# Altium footprint library SparkFun-Passives.PCBLIB: 102 footprints (part 6 of 7)
Each footprint in its own frame and in the unit in brackets; x right, y up, seen from the top. Pads: shape width x height; smd on the part's side, far side on the other; paste and mask are expansions set on the pad; w line width, h text height; cw(c..) or ccw(c..) is an arc to the next point about the centre after c.
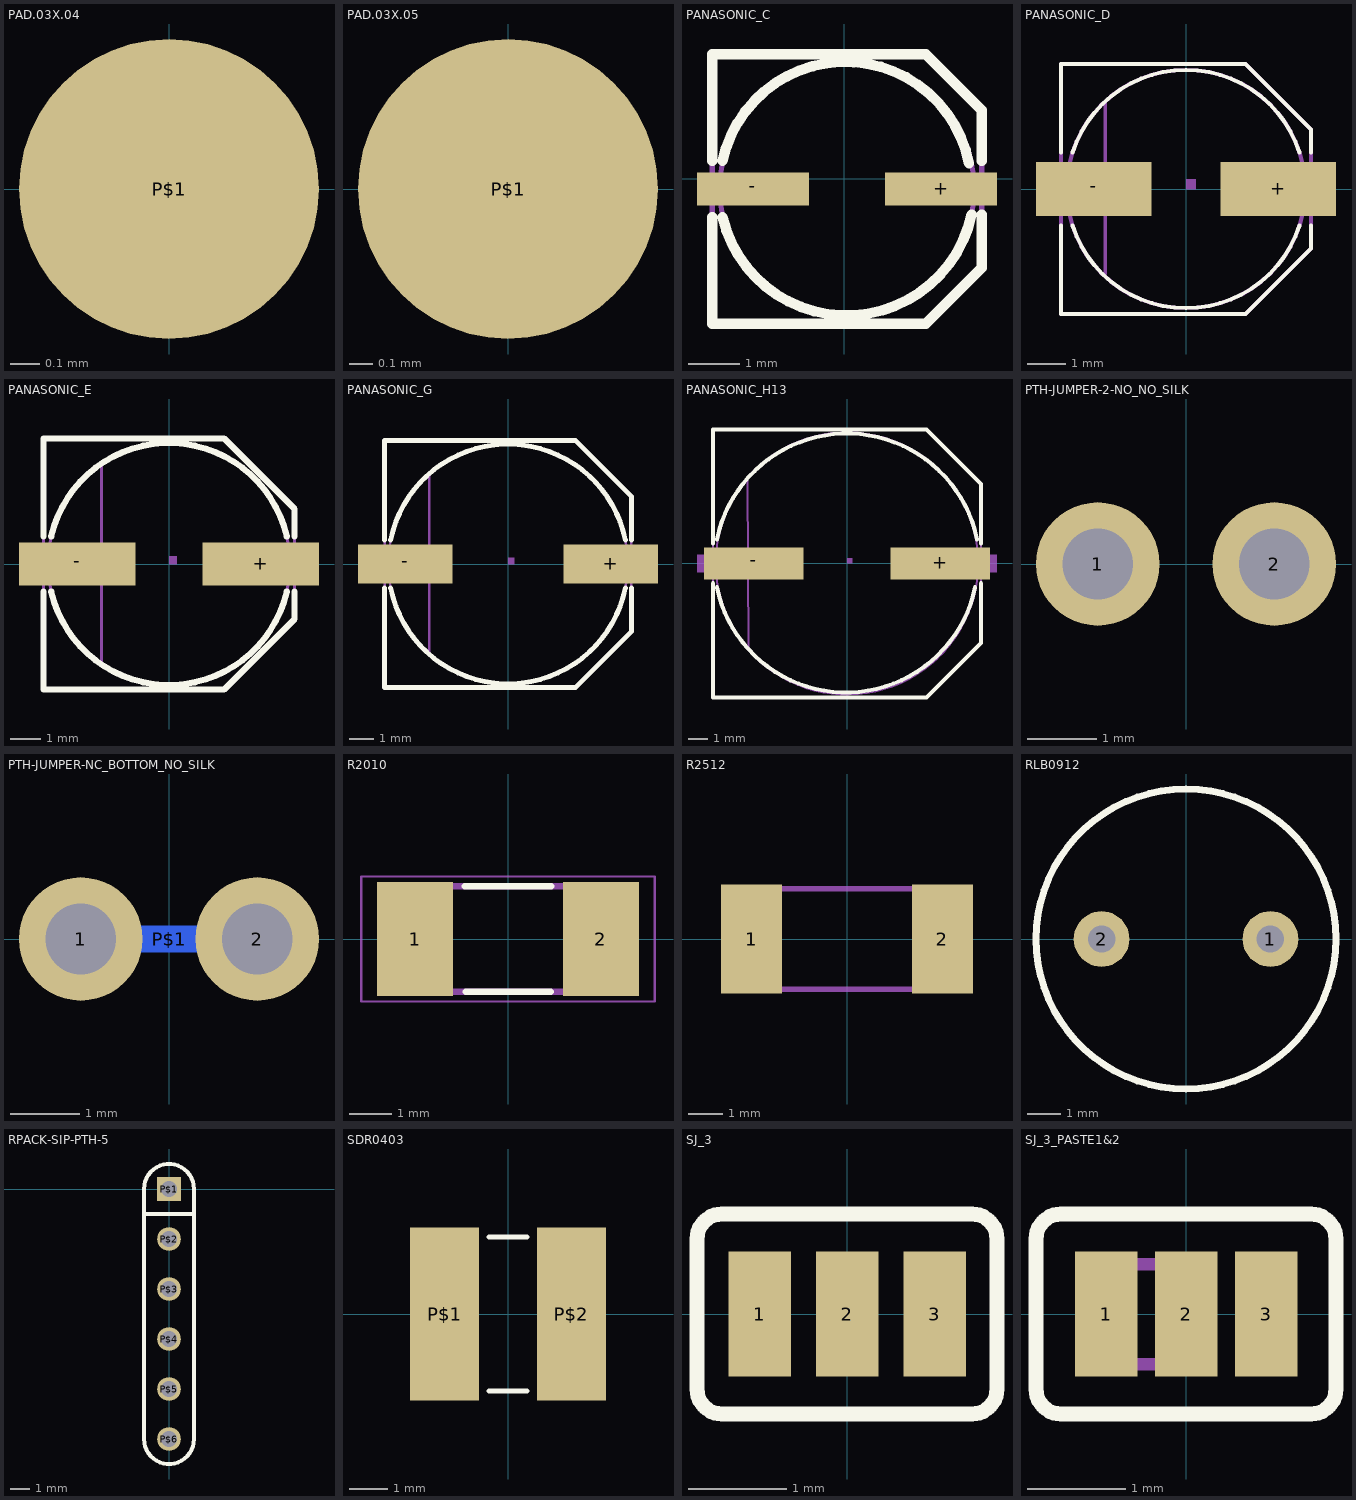
[diagram p5: the footprints below, top view; thin cyan lines are the x and y axes]

## PAD.03X.04 [mil]
pads (1):
  rrect100% 40x40 smd: P$1(0,0)

## PAD.03X.05 [mil]
pads (1):
  rrect100% 50x50 smd: P$1(0,0)

## PANASONIC_C [mm]
pads (2):
  rect 2.2x0.65 smd: +(1.9,-0.2) -(-1.8,-0.2)
Top Overlay:
  lines w0.203: -2.6,-0.75 -2.6,-2.85 1.6,-2.85 2.7,-1.75 2.7,-0.7 ; -2.6,0.35 -2.6,2.45 1.6,2.45 2.7,1.35 2.7,0.35 ; -2.4,-0.75 ccw(c0.044,-0.175) 2.5,-0.7 ; -2.4,0.35 cw(c0.02,-0.175) 2.45,0.3
Mechanical 16:
  circle w0.102: c0.05,-0.2 r2.5
  lines w0.102: -2.6,-2.85 1.6,-2.85 2.7,-1.75 2.7,1.35 1.6,2.45 -2.6,2.45 -2.6,-2.85

## PANASONIC_D [mm]
pads (2):
  rect 3x1.4 smd: +(2.4,0) -(-2.4,0)
Top Overlay:
  lines w0.102: -3.25,-0.95 -3.25,-3.25 1.55,-3.25 3.25,-1.55 3.25,-0.95 ; -3.25,0.95 -3.25,3.25 1.55,3.25 3.25,1.55 3.25,0.95 ; -2.95,-0.95 ccw(c0,0) 2.95,-0.95 ; -2.95,0.95 cw(c0,0) 2.95,0.95
Mechanical 16:
  circle w0.102: c0,0 r3.1
  rectangle: -3.65,-0.35 -3.05,0.35
  rectangle: 3.05,-0.35 3.65,0.35
  region: 0,0 0.254,0 0.254,0.254 0,0.254
  lines w0.102: -2.1,-2.2 -2.1,2.25 ; -3.25,-3.25 1.55,-3.25 3.25,-1.55 3.25,1.55 1.55,3.25 -3.25,3.25 -3.25,-3.25

## PANASONIC_E [mm]
pads (2):
  rect 3.8x1.4 smd: +(3,0) -(-3,0)
Top Overlay:
  lines w0.203: -4.1,-0.9 -4.1,-4.1 1.8,-4.1 4.1,-1.8 4.1,-0.9 ; -4.1,0.9 -4.1,4.1 1.8,4.1 4.1,1.8 4.1,0.9 ; -3.85,-0.9 ccw(c0,0) 3.85,-0.9 ; -3.85,0.9 cw(c0,0) 3.85,0.9
Mechanical 16:
  circle w0.102: c0,0 r3.95
  rectangle: -4.5,-0.35 -3.8,0.35
  rectangle: 3.8,-0.35 4.5,0.35
  region: 0,0 0.254,0 0.254,0.254 0,0.254
  lines w0.102: -2.2,-3.25 -2.2,3.25 ; -4.1,-4.1 1.8,-4.1 4.1,-1.8 4.1,1.8 1.8,4.1 -4.1,4.1 -4.1,-4.1

## PANASONIC_G [mil]
pads (2):
  rect 153.54x62.99 smd: +(167.32,0) -(-167.32,0)
Top Overlay:
  lines w8: -200.79,-39.37 -200.79,-200.79 110.24,-200.79 200.79,-110.24 200.79,-39.37 ; -200.79,39.37 -200.79,200.79 110.24,200.79 200.79,110.24 200.79,39.37 ; -190.94,-39.37 ccw(c0,0) 190.94,-39.37 ; -190.94,39.37 cw(c0,0) 190.94,39.37
Mechanical 16:
  circle w4: c0,0 r194.88
  rectangle: -230.32,-17.72 -192.91,17.72
  rectangle: 192.91,-17.72 230.32,17.72
  region: 0,0 10,0 10,10 0,10
  lines w4: -127.95,-143.7 -127.95,145.67 ; -200.79,-200.79 110.24,-200.79 200.79,-110.24 200.79,110.24 110.24,200.79 -200.79,200.79 -200.79,-200.79

## PANASONIC_H13 [mm]
pads (2):
  rect 5x1.6 smd: +(4.7,0) -(-4.7,0)
Top Overlay:
  lines w0.203: -6.75,-1 -6.75,-6.75 4,-6.75 6.75,-4 6.75,-1 ; -6.75,1 -6.75,6.75 4,6.75 6.75,4 6.75,1 ; -6.55,-1.2 ccw(c-0.05,0.141) 6.45,-1.2 ; -6.55,1.2 cw(c0,-0.151) 6.55,1.2
Mechanical 16:
  circle w0.102: c0,0 r6.6
  rectangle: -7.55,-0.45 -6.6,0.45
  rectangle: 6.6,-0.45 7.55,0.45
  region: 0,0 0.254,0 0.254,0.254 0,0.254
  lines w0.102: -5,4.25 -4.95,-4.35 ; -6.75,-6.75 4,-6.75 6.75,-4 6.75,4 4,6.75 -6.75,6.75 -6.75,-6.75

## PTH-JUMPER-2-NO_NO_SILK [mil]
pads (2):
  round 70 hole 40: 1(-50,0) 2(50,0)

## PTH-JUMPER-NC_BOTTOM_NO_SILK [mil]
pads (3):
  round 70 hole 40: 1(-50,0) 2(50,0)
  rect 50x15 smd far side: P$1(0,0)
Bottom Solder:
  rectangle: -12,-50 12,50

## R2010 [mil]
pads (2):
  rect 70.87x106.3 smd: 1(-86.61,0) 2(86.61,0)
Top Overlay:
  lines w6: -40.43,49.02 40.43,49.02 ; -39.45,-49.02 40,-49.02
Mechanical 16:
  rectangle: -98,-52 -64.54,52.33
  rectangle: 65,-52 98.46,52.33
  lines w6: -65.43,49.02 65.43,49.02 ; -64.45,-49.02 66.42,-49.02
Mechanical 27:
  lines w2: -136.73,-58.39 136.73,-58.39 136.73,58.39 -136.73,58.39 -136.73,-58.39

## R2512 [mil]
pads (2):
  rect 70.87x125.98 smd: 1(-110.24,0) 2(110.24,0)
Mechanical 16:
  rectangle: -126,-61 -92.54,61.05
  rectangle: 93,-61 126.46,61.05
  lines w6: -92.99,-57.99 93.98,-57.99 ; -92.99,57.99 93.98,57.99

## RLB0912 [mil]
pads (2):
  round 65 hole 32: 1(98.5,0) 2(-98.5,0)
Top Overlay:
  circle w8: c0,0 r175

## RPACK-SIP-PTH-5 [mil]
pads (6):
  rect 47.25x47.25 hole 31.5: P$1(0,0)
  round 47.25 hole 31.5: P$2(0,-100) P$3(0,-200) P$4(0,-300) P$5(0,-400) P$6(0,-500)
Top Overlay:
  lines w8: -50,-50 -50,0 cw(c0,0) 50,0 50,-50 ; -50,-50 -50,-500 ccw(c0,-500) 50,-500 50,-50 ; -50,-50 50,-50

## SDR0403 [mm]
pads (2):
  rect 1.8x4.5 smd: P$1(-1.65,0) P$2(1.65,0)
Top Overlay:
  lines w0.127: -0.5,-2 0.5,-2 ; -0.5,2 0.5,2

## SJ_3 [mil]
pads (3):
  rect 25x50 smd: 1(-35,0) 2(0,0) 3(35,0)
Top Overlay:
  lines w6: -60,-30 ccw(c-50,-30) -50,-40 50,-40 ccw(c50,-30) 60,-30 60,30 ccw(c50,30) 50,40 -50,40 ccw(c-50,30) -60,30 -60,-30

## SJ_3_PASTE1&2 [mil]
pads (3):
  rect 25x50 smd: 1(-32,0) 2(0,0) 3(32,0)
Top Overlay:
  lines w6: -60,-30 ccw(c-50,-30) -50,-40 50,-40 ccw(c50,-30) 60,-30 60,30 ccw(c50,30) 50,40 -50,40 ccw(c-50,30) -60,30 -60,-30
Top Paste:
  rectangle: -57,-40 11,37
Mechanical 16:
  lines w5: -40,-20 -40,20 7.5,20 7.5,-20 -40,-20
  text "PASTE" at -30,-17.5 h15.5